# Altium schematic symbol library LM2576S-3.3_NOPB.SchLib: 1 symbol
Pins are listed as number, name and electrical type; pins without a type are passive.

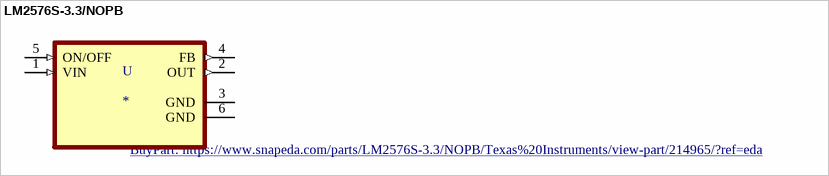
[diagram p0: symbol LM2576S-3.3/NOPB]

## LM2576S-3.3/NOPB
designator U
SWITCHER Ø³Ø§Ø¯Ù‡ Ùˆ regØ› 40 ÙˆÙ„Øª ØŒ 3A ØªÙ†Ø¸ÛŒÙ… Ú©Ù†Ù†Ø¯Ù‡ Ú¯Ø§Ù… Ø¨Ù‡ Ù¾Ø§ÛŒÛŒÙ† ØªØ¹Ø¯Ø§Ø¯ Ú©Ø§Ù…Ù¾ÙˆÙ†Ù†Øª Ú©Ù… 5-DDPAK / TO-263 -40 ØªØ§ 125; MP: LM2576S-3.3/NOPB; MF: Texas Instruments; Availability: Unavailable; Texas_Instruments-Purchase-URL: https://snapeda.com/shop?store=Texas+Instruments&id=214965; Value: *; Package: TO-263-5 Texas Instruments; Price: None; SnapEDA_Link: https://www.snapeda.com/parts/LM2576S-3.3/NOPB/Texas%20Instruments/view-part/214965/?ref=snap; BuyPart: https://www.snapeda.com/parts/LM2576S-3.3/NOPB/Texas%20Instruments/view-part/214965/?ref=eda
footprint VREG_TPS79625KTTR
pins: 1 VIN (in), 2 OUT (out), 3 GND (power), 4 FB (out), 5 ON/OFF (in), 6 GND (power)